# EAGLE library part 2137160001 (library Connectors)
USB Type C Connectors Receptacle USB 2.0 16 Contact
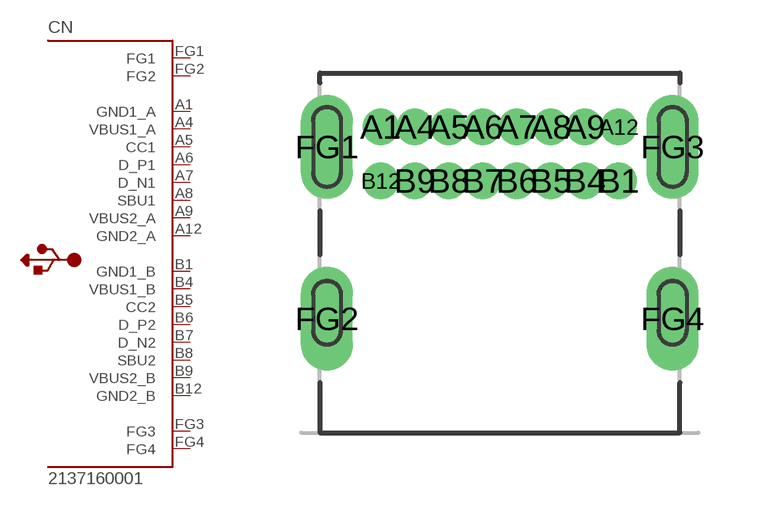
[diagram p8: symbol with the pads of 2137160001; footprint 2137160001]

Designator prefix CN

## 2137160001  [2137160001]
A1  GND1_A  pas
A4  VBUS1_A  pas
A5  CC1  pas
A6  D_P1
A7  D_N1
A8  SBU1  pas
A9  VBUS2_A  pas
A12  GND2_A  pas
B1  GND1_B  pas
B4  VBUS1_B  pas
B5  CC2  pas
B6  D_P2
B7  D_N2
B8  SBU2  pas
B9  VBUS2_B  pas
B12  GND2_B  pas
FG1  FG1  pas
FG2  FG2
FG3  FG3  pas
FG4  FG4  pas

## Footprint 2137160001 (pad centres in mm)
Molex USB Type-C conn rcpt
drill 0.4 pad 0.7: A1 -2.975,0.5; A4 -2.125,0.5; A5 -1.275,0.5; A6 -0.425,0.5; A7 0.425,0.5; A8 1.275,0.5; A9 2.125,0.5; A12 2.975,0.5; B1 2.975,-0.85; B4 2.125,-0.85; B5 1.275,-0.85; B6 0.425,-0.85; B7 -0.425,-0.85; B8 -1.275,-0.85; B9 -2.125,-0.85; B12 -2.975,-0.85
drill 0.7 pad 1.3 long: FG1 -4.32,0; FG2 -4.32,-4.3; FG3 4.32,0; FG4 4.32,-4.3